# Altium footprint library Рositioning_elements.PcbLib: 3 footprints
Each footprint in its own frame and in the unit in brackets; x right, y up, seen from the top. Pads: shape width x height; smd on the part's side, far side on the other; paste and mask are expansions set on the pad; w line width, h text height; cw(c..) or ccw(c..) is an arc to the next point about the centre after c.
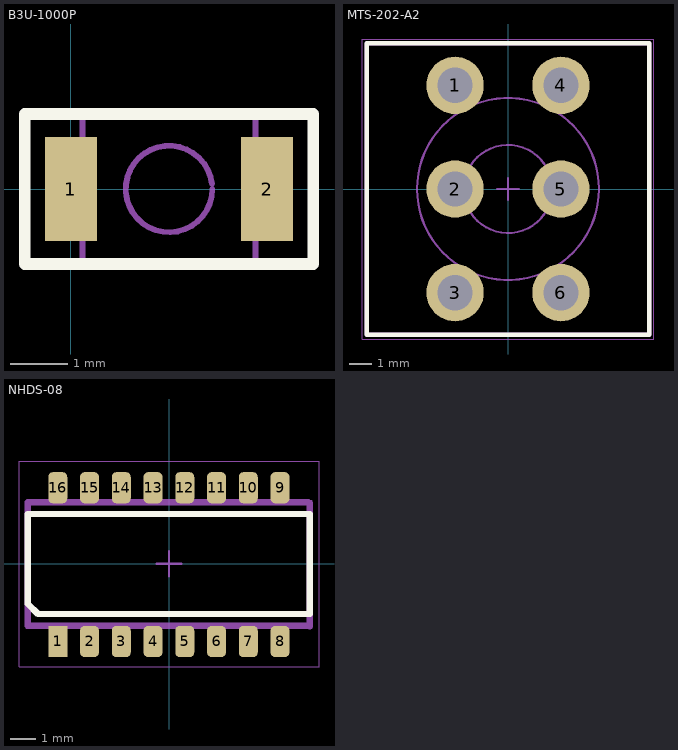
[diagram p0: the footprints below, top view; thin cyan lines are the x and y axes]

## B3U-1000P [mm] "Микроминиатюрный переключатель"
height 1.6
pads (2):
  rect 0.9x1.8 smd: 1(0,0) 2(3.4,0)
Top Overlay:
  lines w0.2: -0.8,-1.3 4.2,-1.3 4.2,1.3 -0.8,1.3 -0.8,-1.3
Mechanical 15:
  lines w0.1: 2.444,0.093 ccw(c1.7,0) 2.45,0 ; 0.2,-1.3 0.2,1.3 3.2,1.3 3.2,-1.3 0.2,-1.3
3D body: height 1.6, standoff 1.2, extent 0.95,-0.75 2.45,0.75
3D body: height 1.2, standoff 0.05, extent 0.2,-1.3 3.2,1.3

## MTS-202-A2 [mm]
height 30
pads (6):
  round 2.6 hole 1.6: 1(-2.4,4.7) 2(-2.4,0) 3(-2.4,-4.7) 4(2.4,4.7) 5(2.4,0) 6(2.4,-4.7)
Top Overlay:
  lines w0.2: -6.4,-6.6 6.4,-6.6 6.4,6.6 -6.4,6.6 -6.4,-6.6
Mechanical 3:
  lines w0.2: -6.4,-6.6 -6.4,6.6 6.4,6.6 6.4,-6.6 -6.4,-6.6
Mechanical 13:
  circle w0.1: c0,0 r4.123
  circle w0.1: c0,0 r2
  lines w0.1: -6.4,-6.6 6.4,-6.6 6.4,6.6 -6.4,6.6 -6.4,-6.6
Mechanical 15:
  lines w0.05: -6.6,-6.8 6.6,-6.8 6.6,6.8 -6.6,6.8 -6.6,-6.8
  lines w0.1: -0.5,0 0.5,0 ; 0,-0.5 0,0.5
3D body: height 10, standoff 0, extent -6.45,-6.65 6.45,6.65
3D body: height 30, standoff 19, extent -2.009,-2.009 2.009,2.009
3D body: height 19, standoff 10, extent -4.131,-4.131 4.131,4.131

## NHDS-08 [mm]
pads (16):
  rect 0.76x1.25 smd: 1(-4.45,-3.1)
  rrect50% 0.76x1.25 smd: 2(-3.18,-3.1) 3(-1.91,-3.1) 4(-0.64,-3.1) 5(0.63,-3.1) 6(1.9,-3.1) 7(3.17,-3.1) 8(4.44,-3.1) 9(4.44,3.05) 10(3.17,3.05) 11(1.9,3.05) 12(0.63,3.05) 13(-0.64,3.05) 14(-1.91,3.05) 15(-3.18,3.05) 16(-4.45,3.05)
Top Overlay:
  lines w0.254: -5.65,-1.589 -5.239,-2 -0.25,-2 5.625,-2 5.625,2 -5.65,2 -5.65,-1.589
Mechanical 3:
  lines w0.254: 5.575,2.475 -5.65,2.475 -5.65,-2.475 5.6,-2.475 5.625,-2.5 5.625,2.425
Mechanical 13:
  lines w0.1: -5.695,-2.55 5.695,-2.55 5.695,2.5 -5.695,2.5 -5.695,-2.55
Mechanical 15:
  lines w0.05: -6,-4.1 -6,4.1 6,4.1 6,-4.1 -6,-4.1
  lines w0.1: -0.5,0 0.5,0 ; 0,-0.5 0,0.5
3D body: height 1.42, standoff 0.1, extent -5.695,-2.55 5.695,2.5